# Altium footprint library VREG_AP2204RA-3.3TRG1.PcbLib: 1 footprints
Each footprint in its own frame and in the unit in brackets; x right, y up, seen from the top. Pads: shape width x height; smd on the part's side, far side on the other; paste and mask are expansions set on the pad; w line width, h text height; cw(c..) or ccw(c..) is an arc to the next point about the centre after c.
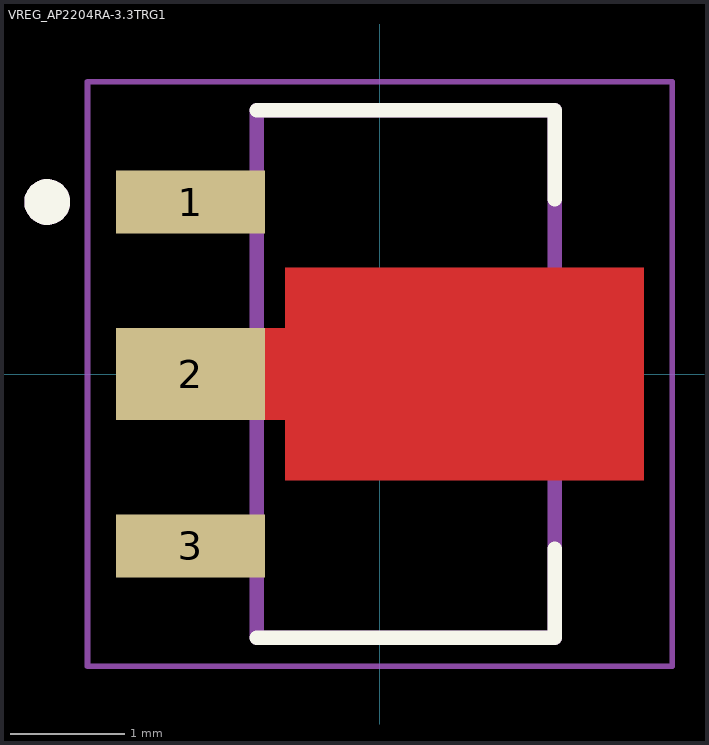
[diagram p0: the footprint, top view; thin cyan lines are the x and y axes]

## VREG_AP2204RA-3.3TRG1 [mm]
pads (3):
  rect 1.3x0.55 smd: 1(-1.65,1.5) 3(-1.65,-1.5)
  rect 1.3x0.8 smd: 2(-1.65,0)
Signal:
  region: 2.3,-0.925 -0.825,-0.925 -0.825,-0.4 -2.3,-0.4 -2.3,0.4 -0.825,0.4 -0.825,0.925 2.3,0.925
Top Overlay:
  circle w0.2: c-2.9,1.5 r0.1
  lines w0.127: -1.075,-2.3 1.525,-2.3 1.525,-1.524 ; -1.075,2.3 1.525,2.3 1.525,1.524
Top Paste:
  region: 1.837,-0.77 -0.363,-0.77 -0.363,0.77 1.837,0.77
Top Solder:
  region: 2.4,-1.025 -0.925,-1.025 -0.925,1.025 2.4,1.025
Assembly Top:
  circle w0.2: c-2.9,1.5 r0.1
  lines w0.127: -1.075,-2.3 1.525,-2.3 1.525,2.3 -1.075,2.3 -1.075,-2.3
Top Courtyard:
  lines w0.05: -2.55,-2.55 2.55,-2.55 2.55,2.55 -2.55,2.55 -2.55,-2.55
3D body "step_temp.STEP": height 1.6, standoff 0, extent -2.075,-2.25 2.055,2.25